# EAGLE library part 31BQ110 (library RalimTek)
34BQ110 Footprint Lead Acid Battery Capacity Chip
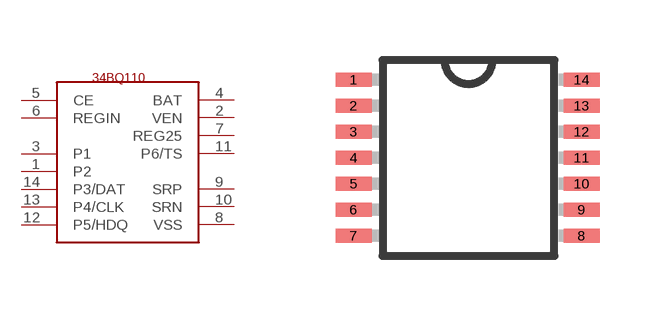
[diagram p14: symbol with the pads of TSSOP14; footprint TSSOP14]

Designator prefix -

## 31BQ110  [TSSOP14]
1  P2
2  VEN
3  P1
4  BAT
5  CE
6  REGIN
7  REG25
8  VSS
9  SRP
10  SRN
11  P6/TS
12  P5/HDQ
13  P4/CLK
14  P3/DAT

## Footprint TSSOP14 (pad centres in mm)
14-Lead Thin Shrink Small Outline Package [TSSOP]
smd 0.9 x 0.35: 1 -2.875,1.95; 2 -2.875,1.3; 3 -2.875,0.65; 4 -2.875,0; 5 -2.875,-0.65; 6 -2.875,-1.3; 7 -2.875,-1.95; 8 2.825,-1.95; 9 2.825,-1.3; 10 2.825,-0.65; 11 2.825,0; 12 2.825,0.65; 13 2.825,1.3; 14 2.825,1.95